# Altium footprint library SM_SW_TactSPST_FSMSMTR.PcbLib: 1 footprints
Each footprint in its own frame and in the unit in brackets; x right, y up, seen from the top. Pads: shape width x height; smd on the part's side, far side on the other; paste and mask are expansions set on the pad; w line width, h text height; cw(c..) or ccw(c..) is an arc to the next point about the centre after c.
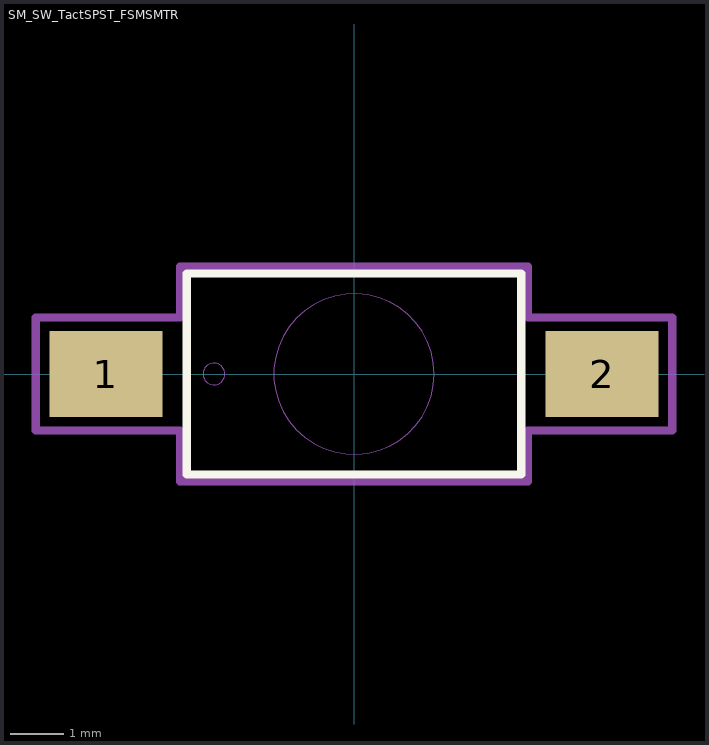
[diagram p0: the footprint, top view; thin cyan lines are the x and y axes]

## SM_SW_TactSPST_FSMSMTR [mil]
pads (2):
  rect 83x63 smd: 1(-182.5,0) 2(182.5,0)
Top Overlay:
  lines w6: -123,-74 123,-74 123,74 -123,74 -123,-74
Mechanical 13:
  circle w0: c-103,0 r8
  circle w0: c0,0 r59
Mechanical 15:
  lines w6: -234,-41.5 -234,41.5 -128,41.5 -128,79 128,79 128,41.5 234,41.5 234,-41.5 128,-41.5 128,-79 -128,-79 -128,-41.5 -234,-41.5
3D body "c-1437566-4-c-3d.stp": height 173.82, standoff 0, extent -196.24,-68.89 196.24,68.9